# Altium schematic symbol library Regulator_Switching.SchLib: 1279 symbols (part 2 of 14)
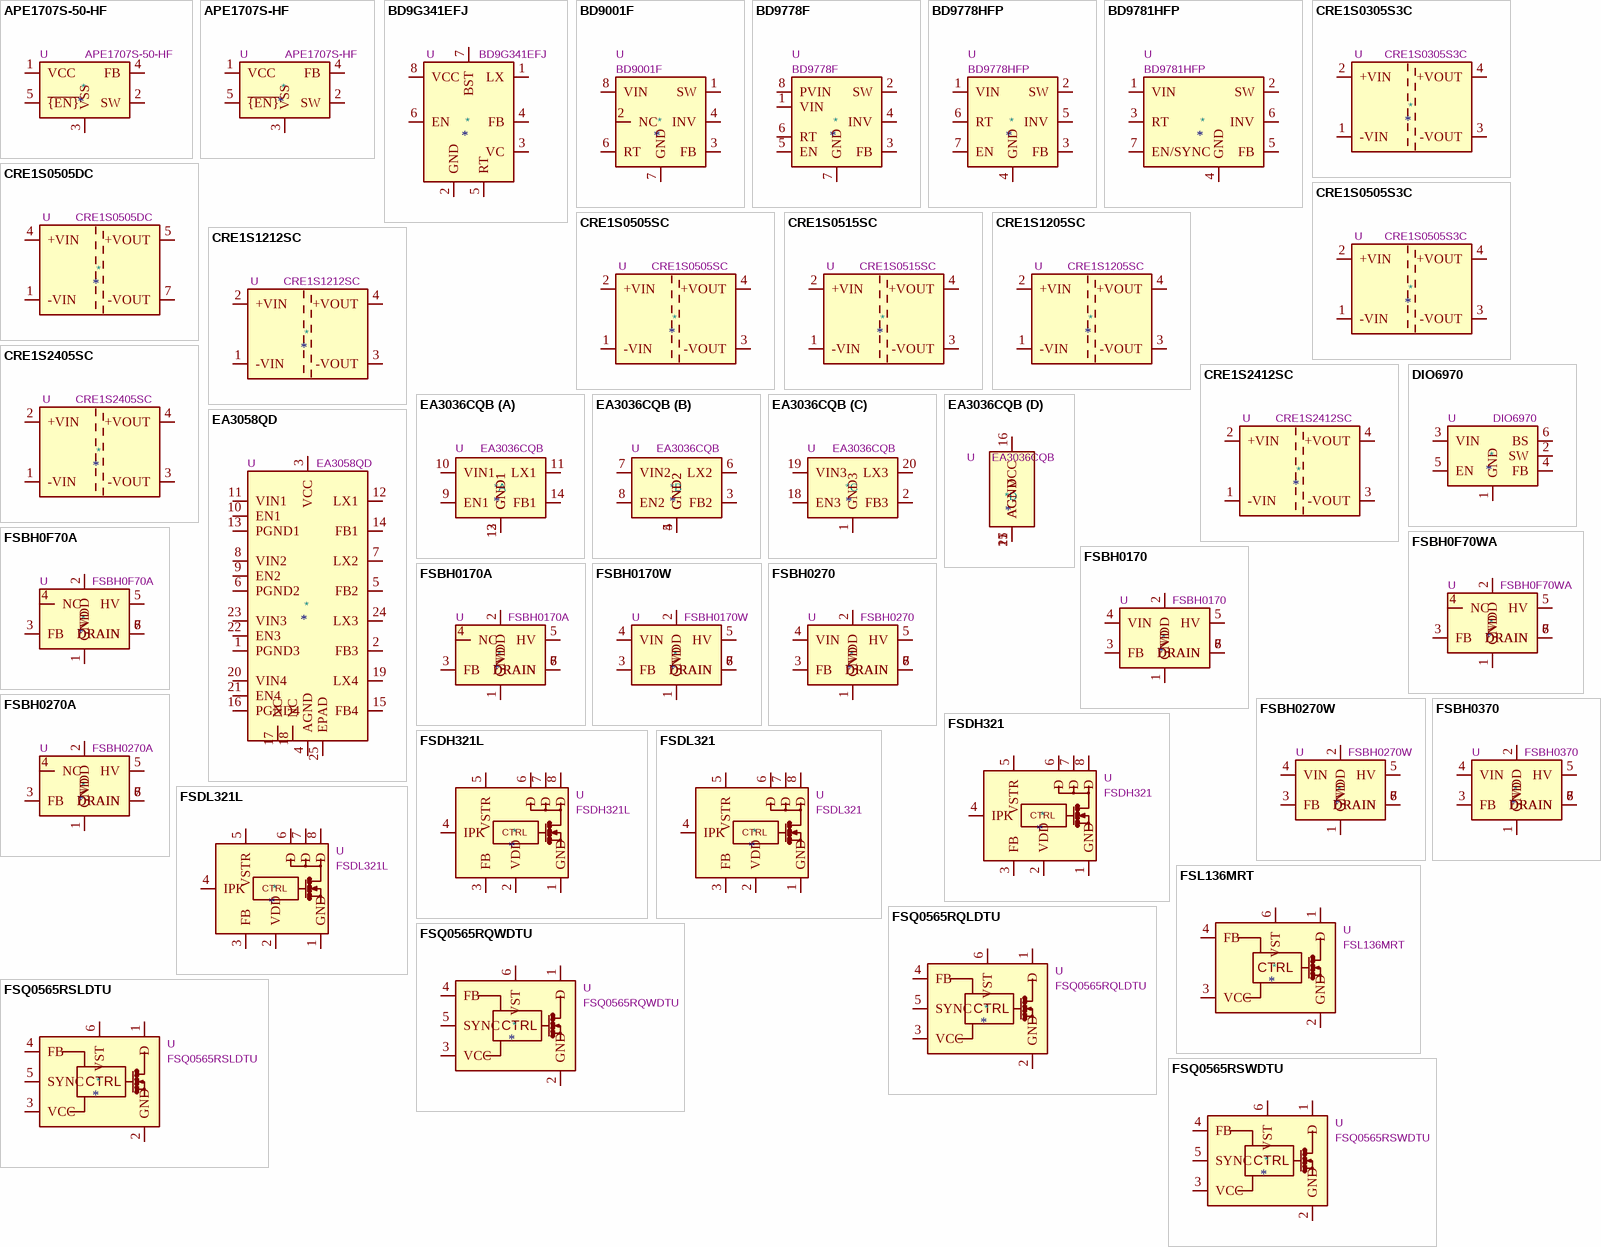
[diagram p33: symbols APE1707S-50-HF to FSQ0565RSWDTU]

## DIO6970
designator *  value DIO6970  Reference: U
High-Efficiency 2A, 24V Input Synchronous Step Down Converter, SOT-23-6; ki_keywords: smps buck boost inverting; ki_fp_filters: SOT?23*; Footprint: Package_TO_SOT_SMD:SOT-23-6; Datasheet: http://www.dioo.com/uploads/product/20190313/7a4d03690a9be004035eb1035a429f24.pdf; Description_: High-Efficiency 2A, 24V Input Synchronous Step Down Converter, SOT-23-6
pins: 1 GND, 2 SW, 3 VIN, 4 FB, 5 EN, 6 BS

## EA3036CQB
designator *  value EA3036CQB  Reference: U
3CH power management IC, input range: 2.7V - 5.5V, output range: 0.6V - VIN, 1.5 MHz, WQFN-20; ki_keywords: buck DCDC converter; ki_fp_filters: *QFN*3x3mm*P0.4mm*EP1.65x1.65mm* *QFN*3x3mm*P0.4mm*EP1.7x1.7mm*; Footprint: Package_DFN_QFN:QFN-20-1EP_3x3mm_P0.4mm_EP1.65x1.65mm; Datasheet: https://atta.szlcsc.com/upload/public/pdf/source/20200529/C570857_65255DA4FBC4C795D9FF4AFE8A3669F7.pdf; Description_: 3CH power management IC, input range: 2.7V - 5.5V, output range: 0.6V - VIN, 1.5 MHz, WQFN-20
part A pins: 9 EN1, 10 VIN1, 11 LX1, 12 GND1, 13 GND1, 14 FB1
part B pins: 3 FB2, 4 GND2, 5 GND2, 6 LX2, 7 VIN2, 8 EN2
part C pins: 1 GND3, 2 FB3, 18 EN3, 19 VIN3, 20 LX3
part D pins: 15 AGND, 16 VCC, 17 AGND, 21 AGND

## EA3058QD
designator *  value EA3058QD  Reference: U
4-channel power management IC, 2.7..5.5V input, 1.5 MHz switching frequency, VQFN-24; ki_keywords: buck-converter SMPS; ki_fp_filters: *QFN*4x4mm*P0.5mm*EP2.5*x2.5*; Footprint: Package_DFN_QFN:VQFN-24-1EP_4x4mm_P0.5mm_EP2.5x2.5mm_ThermalVias; Datasheet: https://www.lcsc.com/datasheet/lcsc_datasheet_2006041834_Everanalog-IC-design-EA3058QDR_C575412.pdf; Description_: 4-channel power management IC, 2.7..5.5V input, 1.5 MHz switching frequency, VQFN-24
pins: 1 PGND3, 2 FB3, 3 VCC, 4 AGND, 5 FB2, 6 PGND2, 7 LX2, 8 VIN2, 9 EN2, 10 EN1, 11 VIN1, 12 LX1, 13 PGND1, 14 FB1, 15 FB4, 16 PGND4, 17 NC, 18 NC, 19 LX4, 20 VIN4, 21 EN4, 22 EN3, 23 VIN3, 24 LX3, 25 EPAD

## FSBH0F70A
designator *  value FSBH0F70A  Reference: U
Green Mode Fairchild Power Switch, 700V Vds, 0.5A Id, 10W/8W 230V/85-265V, DIP-8; ki_keywords: smps regulator; ki_fp_filters: DIP*W7.62mm*; Footprint: Package_DIP:DIP-8_W7.62mm; Datasheet: https://www.onsemi.com/pub/Collateral/FSBH0270-D.PDF; Description_: Green Mode Fairchild Power Switch, 700V Vds, 0.5A Id, 10W/8W 230V/85-265V, DIP-8
pins: 1 GND, 2 VDD, 3 FB, 4 NC, 5 HV, 6 DRAIN, 7 DRAIN, 8 DRAIN

## FSBH0F70WA
designator *  value FSBH0F70WA  Reference: U
Green Mode Fairchild Power Switch, 700V Vds, 0.5A Id, 10W/8W 230V/85-265V, DIP-8; ki_keywords: smps regulator; ki_fp_filters: DIP*W7.62mm*; Footprint: Package_DIP:DIP-8_W7.62mm; Datasheet: http://www.onsemi.com/pub/Collateral/FSBH0270W-D.pdf; Description_: Green Mode Fairchild Power Switch, 700V Vds, 0.5A Id, 10W/8W 230V/85-265V, DIP-8
pins: 1 GND, 2 VDD, 3 FB, 4 NC, 5 HV, 6 DRAIN, 7 DRAIN, 8 DRAIN

## FSBH0170
designator *  value FSBH0170  Reference: U
Green Mode Fairchild Power Switch, 700V Vds, 1.0A Id, 15W/13W 230V/85-265V, VIN Pin, DIP-8; ki_keywords: smps regulator; ki_fp_filters: DIP*W7.62mm*; Footprint: Package_DIP:DIP-8_W7.62mm; Datasheet: https://www.onsemi.com/pub/Collateral/FSBH0270-D.PDF; Description_: Green Mode Fairchild Power Switch, 700V Vds, 1.0A Id, 15W/13W 230V/85-265V, VIN Pin, DIP-8
pins: 1 GND, 2 VDD, 3 FB, 4 VIN, 5 HV, 6 DRAIN, 7 DRAIN, 8 DRAIN

## FSBH0170A
designator *  value FSBH0170A  Reference: U
Green Mode Fairchild Power Switch, 700V Vds, 1.0A Id, 15W/13W 230V/85-265V, DIP-8; ki_keywords: smps regulator; ki_fp_filters: DIP*W7.62mm*; Footprint: Package_DIP:DIP-8_W7.62mm; Datasheet: https://www.onsemi.com/pub/Collateral/FSBH0270-D.PDF; Description_: Green Mode Fairchild Power Switch, 700V Vds, 1.0A Id, 15W/13W 230V/85-265V, DIP-8
pins: 1 GND, 2 VDD, 3 FB, 4 NC, 5 HV, 6 DRAIN, 7 DRAIN, 8 DRAIN

## FSBH0170W
designator *  value FSBH0170W  Reference: U
Green Mode Fairchild Power Switch, 700V Vds, 1.0A Id, 15W/13W 230V/85-265V, VIN Pin, DIP-8; ki_keywords: smps regulator; ki_fp_filters: DIP*W7.62mm*; Footprint: Package_DIP:DIP-8_W7.62mm; Datasheet: http://www.onsemi.com/pub/Collateral/FSBH0270W-D.pdf; Description_: Green Mode Fairchild Power Switch, 700V Vds, 1.0A Id, 15W/13W 230V/85-265V, VIN Pin, DIP-8
pins: 1 GND, 2 VDD, 3 FB, 4 VIN, 5 HV, 6 DRAIN, 7 DRAIN, 8 DRAIN

## FSBH0270
designator *  value FSBH0270  Reference: U
Green Mode Fairchild Power Switch, 700V Vds, 2.0A Id, 20W/16W 230V/85-265V, VIN Pin, DIP-8; ki_keywords: smps regulator; ki_fp_filters: DIP*W7.62mm*; Footprint: Package_DIP:DIP-8_W7.62mm; Datasheet: https://www.onsemi.com/pub/Collateral/FSBH0270-D.PDF; Description_: Green Mode Fairchild Power Switch, 700V Vds, 2.0A Id, 20W/16W 230V/85-265V, VIN Pin, DIP-8
pins: 1 GND, 2 VDD, 3 FB, 4 VIN, 5 HV, 6 DRAIN, 7 DRAIN, 8 DRAIN

## FSBH0270A
designator *  value FSBH0270A  Reference: U
Green Mode Fairchild Power Switch, 700V Vds, 2.0A Id, 20W/16W 230V/85-265V, DIP-8; ki_keywords: smps regulator; ki_fp_filters: DIP*W7.62mm*; Footprint: Package_DIP:DIP-8_W7.62mm; Datasheet: https://www.onsemi.com/pub/Collateral/FSBH0270-D.PDF; Description_: Green Mode Fairchild Power Switch, 700V Vds, 2.0A Id, 20W/16W 230V/85-265V, DIP-8
pins: 1 GND, 2 VDD, 3 FB, 4 NC, 5 HV, 6 DRAIN, 7 DRAIN, 8 DRAIN

## FSBH0270W
designator *  value FSBH0270W  Reference: U
Green Mode Fairchild Power Switch, 700V Vds, 2.0A Id, 20W/16W 230V/85-265V, VIN Pin, DIP-8; ki_keywords: smps regulator; ki_fp_filters: DIP*W7.62mm*; Footprint: Package_DIP:DIP-8_W7.62mm; Datasheet: http://www.onsemi.com/pub/Collateral/FSBH0270W-D.pdf; Description_: Green Mode Fairchild Power Switch, 700V Vds, 2.0A Id, 20W/16W 230V/85-265V, VIN Pin, DIP-8
pins: 1 GND, 2 VDD, 3 FB, 4 VIN, 5 HV, 6 DRAIN, 7 DRAIN, 8 DRAIN

## FSBH0370
designator *  value FSBH0370  Reference: U
Green Mode Fairchild Power Switch, 700V Vds, 3.0A Id, 25W/19W 230V/85-265V, VIN Pin, DIP-8; ki_keywords: smps regulator; ki_fp_filters: DIP*W7.62mm*; Footprint: Package_DIP:DIP-8_W7.62mm; Datasheet: https://www.onsemi.com/pub/Collateral/FSBH0270-D.PDF; Description_: Green Mode Fairchild Power Switch, 700V Vds, 3.0A Id, 25W/19W 230V/85-265V, VIN Pin, DIP-8
pins: 1 GND, 2 VDD, 3 FB, 4 VIN, 5 HV, 6 DRAIN, 7 DRAIN, 8 DRAIN

## FSDH321
designator *  value FSDH321  Reference: U
17W SMPS Controller, 100kHz, AC-DC, PDIP-8; ki_keywords: SMPS Controller with MOSFET 17W AC-DC; ki_fp_filters: DIP*W7.62mm*; Footprint: Package_DIP:DIP-8_W7.62mm; Datasheet: https://www.onsemi.com/pub/Collateral/FSDH321JP-D.pdf; Description_: 17W SMPS Controller, 100kHz, AC-DC, PDIP-8
pins: 1 GND, 2 VDD, 3 FB, 4 IPK, 5 VSTR, 6 D, 7 D, 8 D
text: CTRL

## FSDH321L
designator *  value FSDH321L  Reference: U
17W SMPS Controller, 100kHz, AC-DC, SMD-8; ki_keywords: SMPS Controller with MOSFET 17W AC-DC; ki_fp_filters: Fairchild*LSOP*; Footprint: Package_DIP:Fairchild_LSOP-8; Datasheet: https://www.onsemi.com/pub/Collateral/FSDH321JP-D.pdf; Description_: 17W SMPS Controller, 100kHz, AC-DC, SMD-8
pins: 1 GND, 2 VDD, 3 FB, 4 IPK, 5 VSTR, 6 D, 7 D, 8 D
text: CTRL

## FSDL321
designator *  value FSDL321  Reference: U
17W SMPS Controller, 50kHz, AC-DC, PDIP-8; ki_keywords: SMPS Controller with MOSFET 17W AC-DC; ki_fp_filters: DIP*W7.62mm*; Footprint: Package_DIP:DIP-8_W7.62mm; Datasheet: https://www.onsemi.com/pub/Collateral/FSDH321JP-D.pdf; Description_: 17W SMPS Controller, 50kHz, AC-DC, PDIP-8
pins: 1 GND, 2 VDD, 3 FB, 4 IPK, 5 VSTR, 6 D, 7 D, 8 D
text: CTRL

## FSDL321L
designator *  value FSDL321L  Reference: U
17W SMPS Controller, 50kHz, AC-DC, SMD-8; ki_keywords: SMPS Controller with MOSFET 17W AC-DC; ki_fp_filters: Fairchild*LSOP*; Footprint: Package_DIP:Fairchild_LSOP-8; Datasheet: https://www.onsemi.com/pub/Collateral/FSDH321JP-D.pdf; Description_: 17W SMPS Controller, 50kHz, AC-DC, SMD-8
pins: 1 GND, 2 VDD, 3 FB, 4 IPK, 5 VSTR, 6 D, 7 D, 8 D
text: CTRL

## FSL136MRT
designator *  value FSL136MRT  Reference: U
67kHz SMPS Controller w/ Soft Start, max. 50W AC-DC, TO-220F-6L; ki_keywords: SMPS Controller 50W AC-DC; ki_fp_filters: Fairchild*TO*220F*6L*; Footprint: Package_TO_SOT_THT:Fairchild_TO-220F-6L; Datasheet: https://www.onsemi.com/pub/Collateral/FSL136MRT-D.pdf; Description_: 67kHz SMPS Controller w/ Soft Start, max. 50W AC-DC, TO-220F-6L
pins: 1 D, 2 GND, 3 VCC, 4 FB, 6 VST
text: CTRL

## FSQ0565RQLDTU
designator *  value FSQ0565RQLDTU  Reference: U
67kHz Quasi Resonant SMPS Controller w/ Soft Start, max. 80W AC-DC, TO-220F-6L (Formed); ki_keywords: Quasi Resonant SMPS Controller 80W AC-DC; ki_fp_filters: Fairchild*TO*220F*6L*; Footprint: Package_TO_SOT_THT:Fairchild_TO-220F-6L; Datasheet: http://www.onsemi.com/pub/Collateral/FSQ0565RS-D.PDF; Description_: 67kHz Quasi Resonant SMPS Controller w/ Soft Start, max. 80W AC-DC, TO-220F-6L (Formed)
pins: 1 D, 2 GND, 3 VCC, 4 FB, 5 SYNC, 6 VST
text: CTRL

## FSQ0565RQWDTU
designator *  value FSQ0565RQWDTU  Reference: U
67kHz Quasi Resonant SMPS Controller w/ Soft Start, max. 80W AC-DC, TO-220F-6L; ki_keywords: Quasi Resonant SMPS Controller 80W AC-DC; ki_fp_filters: Fairchild*TO*220F*6L*; Footprint: Package_TO_SOT_THT:Fairchild_TO-220F-6L; Datasheet: http://www.onsemi.com/pub/Collateral/FSQ0565RS-D.PDF; Description_: 67kHz Quasi Resonant SMPS Controller w/ Soft Start, max. 80W AC-DC, TO-220F-6L
pins: 1 D, 2 GND, 3 VCC, 4 FB, 5 SYNC, 6 VST
text: CTRL

## FSQ0565RSLDTU
designator *  value FSQ0565RSLDTU  Reference: U
67kHz Quasi Resonant SMPS Controller w/ Soft Start, max. 80W AC-DC, TO-220F-6L (Formed); ki_keywords: Quasi Resonant SMPS Controller 80W AC-DC; ki_fp_filters: Fairchild*TO*220F*6L*; Footprint: Package_TO_SOT_THT:Fairchild_TO-220F-6L; Datasheet: http://www.onsemi.com/pub/Collateral/FSQ0565RS-D.PDF; Description_: 67kHz Quasi Resonant SMPS Controller w/ Soft Start, max. 80W AC-DC, TO-220F-6L (Formed)
pins: 1 D, 2 GND, 3 VCC, 4 FB, 5 SYNC, 6 VST
text: CTRL

## FSQ0565RSWDTU
designator *  value FSQ0565RSWDTU  Reference: U
67kHz Quasi Resonant SMPS Controller w/ Soft Start, max. 80W AC-DC, TO-220F-6L; ki_keywords: Quasi Resonant SMPS Controller 80W AC-DC; ki_fp_filters: Fairchild*TO*220F*6L*; Footprint: Package_TO_SOT_THT:Fairchild_TO-220F-6L; Datasheet: http://www.onsemi.com/pub/Collateral/FSQ0565RS-D.PDF; Description_: 67kHz Quasi Resonant SMPS Controller w/ Soft Start, max. 80W AC-DC, TO-220F-6L
pins: 1 D, 2 GND, 3 VCC, 4 FB, 5 SYNC, 6 VST
text: CTRL

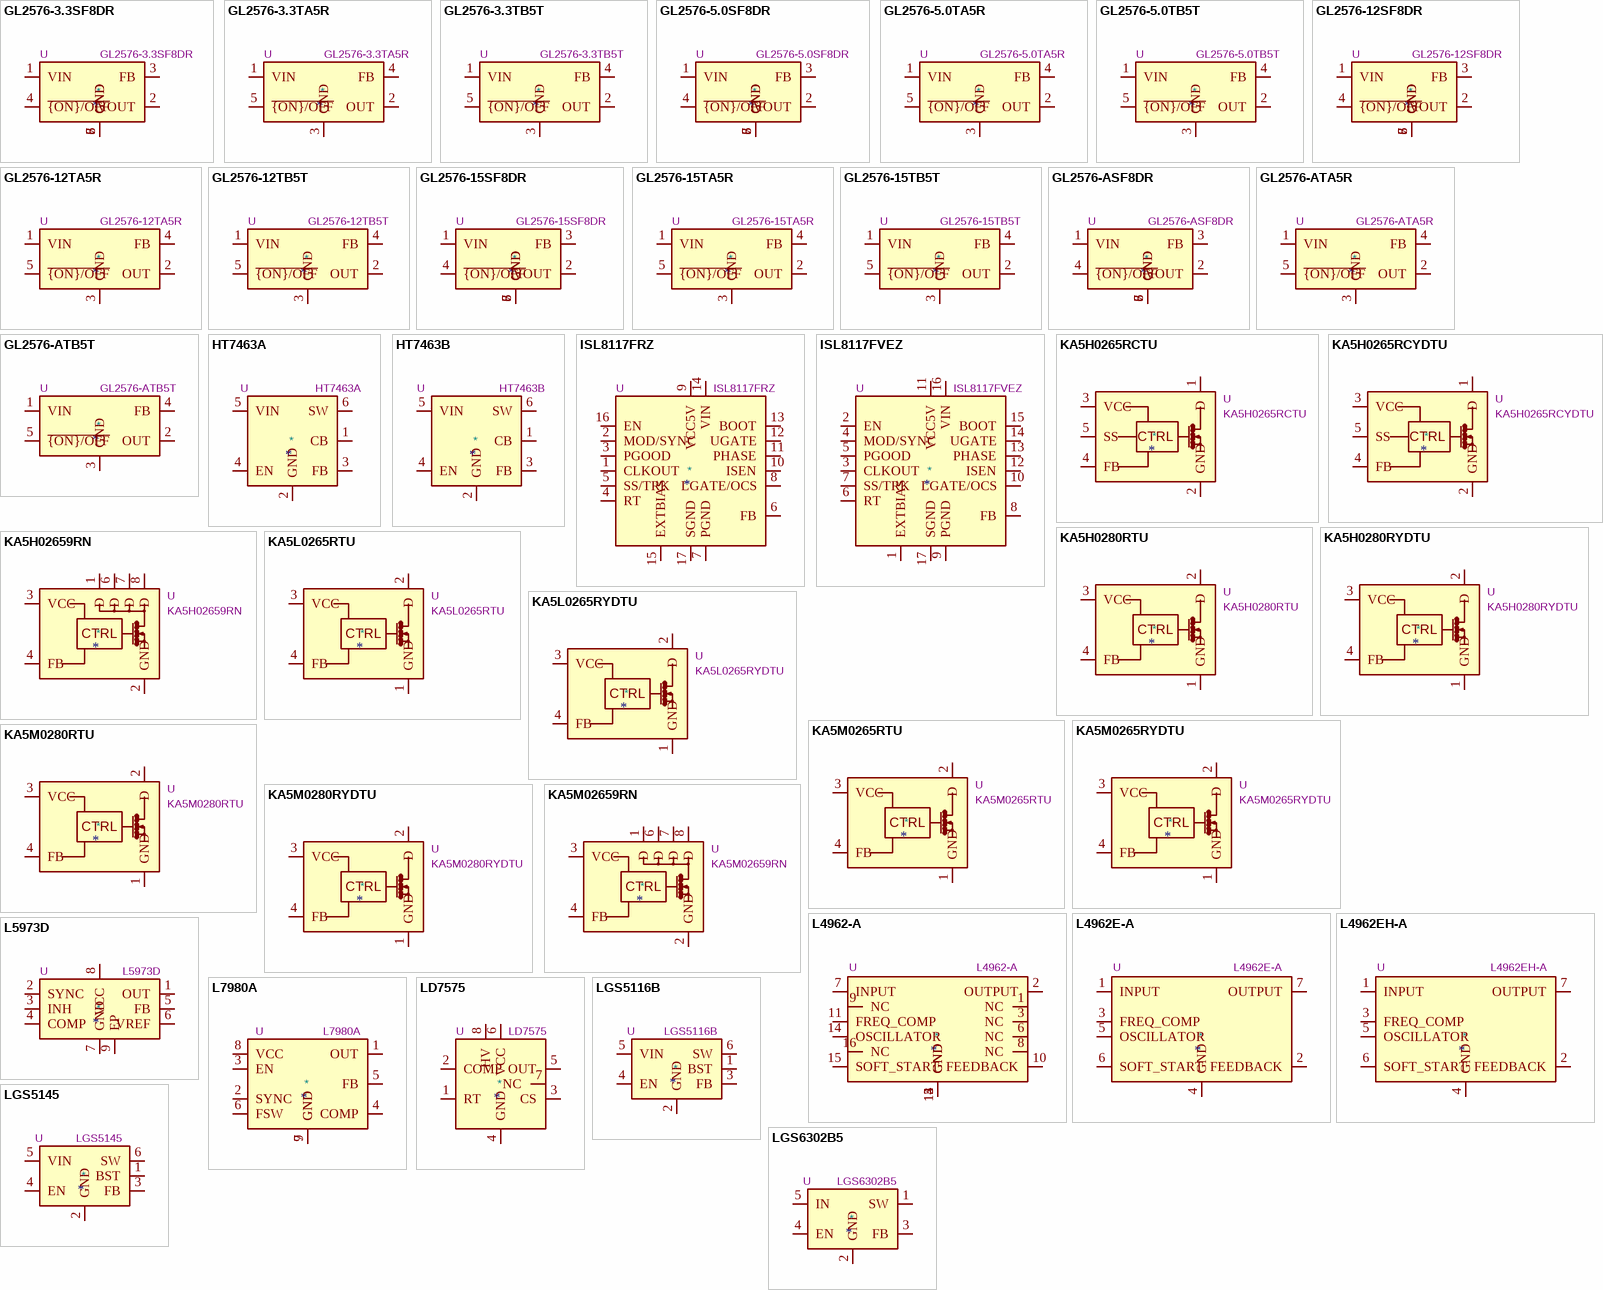
[diagram p3: symbols GL2576-3.3SF8DR to LGS6302B5]

## GL2576-3.3SF8DR
designator *  value GL2576-3.3SF8DR  Reference: U
3.3V 3A, 52KHz Step Down Converter, SO-8; ki_keywords: 3.3V 3A 52KHz Buck DC/DC; ki_fp_filters: SOIC*3.9x4.9mm*P1.27mm*; Footprint: Package_SO:SOIC-8_3.9x4.9mm_P1.27mm; Datasheet: http://www.dianyuan.com/bbs/u/54/437861181916300.pdf; Description_: 3.3V 3A, 52KHz Step Down Converter, SO-8
pins: 1 VIN, 2 VOUT, 3 FB, 4 ~{{ON}/OFF}, 5 GND, 6 GND, 7 GND, 8 GND

## GL2576-3.3TA5R
designator *  value GL2576-3.3TA5R  Reference: U
3.3V 3A, 52KHz Step Down Converter, TO263-5 (D2-PAK); ki_keywords: 3.3V 3A 52KHz Buck DC/DC; ki_fp_filters: TO?263*; Footprint: Package_TO_SOT_SMD:TO-263-5_TabPin3; Datasheet: http://www.dianyuan.com/bbs/u/54/437861181916300.pdf; Description_: 3.3V 3A, 52KHz Step Down Converter, TO263-5 (D2-PAK)
pins: 1 VIN, 2 OUT, 3 GND, 4 FB, 5 ~{{ON}/OFF}

## GL2576-3.3TB5T
designator *  value GL2576-3.3TB5T  Reference: U
3.3V 3A, 52KHz Step Down Converter, TO220-5; ki_keywords: 3.3V 3A 52KHz Buck DC/DC; ki_fp_filters: TO?220*; Footprint: Package_TO_SOT_THT:TO-220-5_Vertical; Datasheet: http://www.dianyuan.com/bbs/u/54/437861181916300.pdf; Description_: 3.3V 3A, 52KHz Step Down Converter, TO220-5
pins: 1 VIN, 2 OUT, 3 GND, 4 FB, 5 ~{{ON}/OFF}

## GL2576-5.0SF8DR
designator *  value GL2576-5.0SF8DR  Reference: U
5V 3A, 52KHz Step Down Converter, SO-8; ki_keywords: 5V 3A 52KHz Buck DC/DC; ki_fp_filters: SOIC*3.9x4.9mm*P1.27mm*; Footprint: Package_SO:SOIC-8_3.9x4.9mm_P1.27mm; Datasheet: http://www.dianyuan.com/bbs/u/54/437861181916300.pdf; Description_: 5V 3A, 52KHz Step Down Converter, SO-8
pins: 1 VIN, 2 VOUT, 3 FB, 4 ~{{ON}/OFF}, 5 GND, 6 GND, 7 GND, 8 GND

## GL2576-5.0TA5R
designator *  value GL2576-5.0TA5R  Reference: U
5V 3A, 52KHz Step Down Converter, TO263-5 (D2-PAK); ki_keywords: 5V 3A 52KHz Buck DC/DC; ki_fp_filters: TO?263*; Footprint: Package_TO_SOT_SMD:TO-263-5_TabPin3; Datasheet: http://www.dianyuan.com/bbs/u/54/437861181916300.pdf; Description_: 5V 3A, 52KHz Step Down Converter, TO263-5 (D2-PAK)
pins: 1 VIN, 2 OUT, 3 GND, 4 FB, 5 ~{{ON}/OFF}

## GL2576-5.0TB5T
designator *  value GL2576-5.0TB5T  Reference: U
5V 3A, 52KHz Step Down Converter, TO220-5; ki_keywords: 5V 3A 52KHz Buck DC/DC; ki_fp_filters: TO?220*; Footprint: Package_TO_SOT_THT:TO-220-5_Vertical; Datasheet: http://www.dianyuan.com/bbs/u/54/437861181916300.pdf; Description_: 5V 3A, 52KHz Step Down Converter, TO220-5
pins: 1 VIN, 2 OUT, 3 GND, 4 FB, 5 ~{{ON}/OFF}

## GL2576-12SF8DR
designator *  value GL2576-12SF8DR  Reference: U
12V 3A, 52KHz Step Down Converter, SO-8; ki_keywords: 12V 3A 52KHz Buck DC/DC; ki_fp_filters: SOIC*3.9x4.9mm*P1.27mm*; Footprint: Package_SO:SOIC-8_3.9x4.9mm_P1.27mm; Datasheet: http://www.dianyuan.com/bbs/u/54/437861181916300.pdf; Description_: 12V 3A, 52KHz Step Down Converter, SO-8
pins: 1 VIN, 2 VOUT, 3 FB, 4 ~{{ON}/OFF}, 5 GND, 6 GND, 7 GND, 8 GND

## GL2576-12TA5R
designator *  value GL2576-12TA5R  Reference: U
12V 3A, 52KHz Step Down Converter, TO263-5 (D2-PAK); ki_keywords: 12V 3A 52KHz Buck DC/DC; ki_fp_filters: TO?263*; Footprint: Package_TO_SOT_SMD:TO-263-5_TabPin3; Datasheet: http://www.dianyuan.com/bbs/u/54/437861181916300.pdf; Description_: 12V 3A, 52KHz Step Down Converter, TO263-5 (D2-PAK)
pins: 1 VIN, 2 OUT, 3 GND, 4 FB, 5 ~{{ON}/OFF}

## GL2576-12TB5T
designator *  value GL2576-12TB5T  Reference: U
12V 3A, 52KHz Step Down Converter, TO220-5; ki_keywords: 12V 3A 52KHz Buck DC/DC; ki_fp_filters: TO?220*; Footprint: Package_TO_SOT_THT:TO-220-5_Vertical; Datasheet: http://www.dianyuan.com/bbs/u/54/437861181916300.pdf; Description_: 12V 3A, 52KHz Step Down Converter, TO220-5
pins: 1 VIN, 2 OUT, 3 GND, 4 FB, 5 ~{{ON}/OFF}

## GL2576-15SF8DR
designator *  value GL2576-15SF8DR  Reference: U
15V 3A, 52KHz Step Down Converter, SO-8; ki_keywords: 15V 3A 52KHz Buck DC/DC; ki_fp_filters: SOIC*3.9x4.9mm*P1.27mm*; Footprint: Package_SO:SOIC-8_3.9x4.9mm_P1.27mm; Datasheet: http://www.dianyuan.com/bbs/u/54/437861181916300.pdf; Description_: 15V 3A, 52KHz Step Down Converter, SO-8
pins: 1 VIN, 2 VOUT, 3 FB, 4 ~{{ON}/OFF}, 5 GND, 6 GND, 7 GND, 8 GND

## GL2576-15TA5R
designator *  value GL2576-15TA5R  Reference: U
15V 3A, 52KHz Step Down Converter, TO263-5 (D2-PAK); ki_keywords: 15V 3A 52KHz Buck DC/DC; ki_fp_filters: TO?263*; Footprint: Package_TO_SOT_SMD:TO-263-5_TabPin3; Datasheet: http://www.dianyuan.com/bbs/u/54/437861181916300.pdf; Description_: 15V 3A, 52KHz Step Down Converter, TO263-5 (D2-PAK)
pins: 1 VIN, 2 OUT, 3 GND, 4 FB, 5 ~{{ON}/OFF}

## GL2576-15TB5T
designator *  value GL2576-15TB5T  Reference: U
15V 3A, 52KHz Step Down Converter, TO220-5; ki_keywords: 15V 3A 52KHz Buck DC/DC; ki_fp_filters: TO?220*; Footprint: Package_TO_SOT_THT:TO-220-5_Vertical; Datasheet: http://www.dianyuan.com/bbs/u/54/437861181916300.pdf; Description_: 15V 3A, 52KHz Step Down Converter, TO220-5
pins: 1 VIN, 2 OUT, 3 GND, 4 FB, 5 ~{{ON}/OFF}

## GL2576-ASF8DR
designator *  value GL2576-ASF8DR  Reference: U
Adjustable 3A, 52KHz Step Down Converter, SO-8; ki_keywords: Adjustable 3A 52KHz Buck DC/DC; ki_fp_filters: SOIC*3.9x4.9mm*P1.27mm*; Footprint: Package_SO:SOIC-8_3.9x4.9mm_P1.27mm; Datasheet: http://www.dianyuan.com/bbs/u/54/437861181916300.pdf; Description_: Adjustable 3A, 52KHz Step Down Converter, SO-8
pins: 1 VIN, 2 VOUT, 3 FB, 4 ~{{ON}/OFF}, 5 GND, 6 GND, 7 GND, 8 GND

## GL2576-ATA5R
designator *  value GL2576-ATA5R  Reference: U
Adjustable 3A, 52KHz Step Down Converter, TO263-5 (D2-PAK); ki_keywords: Adjustable 3A 52KHz Buck DC/DC; ki_fp_filters: TO?263*; Footprint: Package_TO_SOT_SMD:TO-263-5_TabPin3; Datasheet: http://www.dianyuan.com/bbs/u/54/437861181916300.pdf; Description_: Adjustable 3A, 52KHz Step Down Converter, TO263-5 (D2-PAK)
pins: 1 VIN, 2 OUT, 3 GND, 4 FB, 5 ~{{ON}/OFF}

## GL2576-ATB5T
designator *  value GL2576-ATB5T  Reference: U
Adjustable 3A, 52KHz Step Down Converter, TO220-5; ki_keywords: Adjustable 3A 52KHz Buck DC/DC; ki_fp_filters: TO?220*; Footprint: Package_TO_SOT_THT:TO-220-5_Vertical; Datasheet: http://www.dianyuan.com/bbs/u/54/437861181916300.pdf; Description_: Adjustable 3A, 52KHz Step Down Converter, TO220-5
pins: 1 VIN, 2 OUT, 3 GND, 4 FB, 5 ~{{ON}/OFF}

## HT7463A
designator *  value HT7463A  Reference: U
600mA High-Efficiency Step-Down DC-DC Converter, 4.5-52V input voltage, adjustable output voltage, SOT-23-6; ki_keywords: buck regulator; ki_fp_filters: SOT*23*6*; Footprint: Package_TO_SOT_SMD:SOT-23-6; Datasheet: https://www.holtek.com/documents/10179/116711/HT7463A_Bv160.pdf; Description_: 600mA High-Efficiency Step-Down DC-DC Converter, 4.5-52V input voltage, adjustable output voltage, SOT-23-6
pins: 1 CB, 2 GND, 3 FB, 4 EN, 5 VIN, 6 SW

## HT7463B
designator *  value HT7463B  Reference: U
52V/600mA, 550kHz Asynchronous Step Down Converter; ki_keywords: 600mA Buck DC/DC 52V 550kHz; ki_fp_filters: SOT*23*6*; Footprint: Package_TO_SOT_SMD:SOT-23-6; Datasheet: https://www.holtek.com/documents/10179/116711/HT7463A_Bv160.pdf; Description_: 52V/600mA, 550kHz Asynchronous Step Down Converter
pins: 1 CB, 2 GND, 3 FB, 4 EN, 5 VIN, 6 SW

## ISL8117FRZ
designator *  value ISL8117FRZ  Reference: U
Synchronous step-down PWM controller, 4.5v to 60v input, 0.6v to 54v Output Voltage, QFN-16; ki_keywords: PWM step down buck converter controller synchronous POL; ki_fp_filters: QFN*1EP*4x4mm*P0.5mm*; Footprint: Package_DFN_QFN:QFN-16-1EP_4x4mm_P0.5mm_EP2.45x2.45mm; Datasheet: https://www.intersil.com/content/dam/Intersil/documents/isl8/isl8117.pdf; Description_: Synchronous step-down PWM controller, 4.5v to 60v input, 0.6v to 54v Output Voltage, QFN-16
pins: 1 CLKOUT, 2 MOD/SYNC, 3 PGOOD, 4 RT, 5 SS/TRK, 6 FB, 7 PGND, 8 LGATE/OCS, 9 VCC5V, 10 ISEN, 11 PHASE, 12 UGATE, 13 BOOT, 14 VIN, 15 EXTBIAS, 16 EN, 17 SGND

## ISL8117FVEZ
designator *  value ISL8117FVEZ  Reference: U
Synchronous step-down PWM controller, 4.5v to 60v input, 0.6v to 54v Output Voltage, HTSSOP-16; ki_keywords: PWM step down buck converter controller synchronous POL; ki_fp_filters: HTSSOP*EP*4.4x5mm*P0.65mm*; Footprint: Package_SO:HTSSOP-16-1EP_4.4x5mm_P0.65mm_EP3.4x5mm; Datasheet: https://www.intersil.com/content/dam/Intersil/documents/isl8/isl8117.pdf; Description_: Synchronous step-down PWM controller, 4.5v to 60v input, 0.6v to 54v Output Voltage, HTSSOP-16
pins: 1 EXTBIAS, 2 EN, 3 CLKOUT, 4 MOD/SYNC, 5 PGOOD, 6 RT, 7 SS/TRK, 8 FB, 9 PGND, 10 LGATE/OCS, 11 VCC5V, 12 ISEN, 13 PHASE, 14 UGATE, 15 BOOT, 16 VIN, 17 SGND

## KA5H0265RCTU
designator *  value KA5H0265RCTU  Reference: U
100kHz SMPS Controller w/ Soft Start, AC-DC, TO-220F-5L; ki_keywords: SMPS Controller AC-DC; ki_fp_filters: *TO*220*5L*; Footprint: Package_TO_SOT_THT:ONSemi_TO-220-5L; Datasheet: http://www.onsemi.com/pub/Collateral/KA5L0265R-D.PDF; Description_: 100kHz SMPS Controller w/ Soft Start, AC-DC, TO-220F-5L
pins: 1 D, 2 GND, 3 VCC, 4 FB, 5 SS
text: CTRL

## KA5H0265RCYDTU
designator *  value KA5H0265RCYDTU  Reference: U
KA5H0265RCTU, 100kHz SMPS Controller w/ Soft Start, AC-DC, TO-220F-5L(Forming); ki_keywords: SMPS Controller AC-DC; ki_fp_filters: *TO*220*5L*; Footprint: Package_TO_SOT_THT:ONSemi_TO-220-5L_Forming; Datasheet: http://www.onsemi.com/pub/Collateral/KA5L0265R-D.PDF; Description_: KA5H0265RCTU, 100kHz SMPS Controller w/ Soft Start, AC-DC, TO-220F-5L(Forming)
pins: 1 D, 2 GND, 3 VCC, 4 FB, 5 SS
text: CTRL

## KA5H0280RTU
designator *  value KA5H0280RTU  Reference: U
100kHz SMPS Controller, AC-DC, TO-220F-4L; ki_keywords: SMPS Controller AC-DC; ki_fp_filters: *TO*220*4*; Footprint: Package_TO_SOT_THT:TO-220-4_Vertical; Datasheet: http://www.onsemi.com/pub/Collateral/KA5L0265R-D.PDF; Description_: 100kHz SMPS Controller, AC-DC, TO-220F-4L
pins: 1 GND, 2 D, 3 VCC, 4 FB
text: CTRL

## KA5H0280RYDTU
designator *  value KA5H0280RYDTU  Reference: U
100kHz SMPS Controller, AC-DC, TO-220F-4L(Forming); ki_keywords: SMPS Controller AC-DC; ki_fp_filters: *TO*220*4*; Footprint: Package_TO_SOT_THT:ONSemi_TO-220F-4L_Forming; Datasheet: http://www.onsemi.com/pub/Collateral/KA5L0265R-D.PDF; Description_: 100kHz SMPS Controller, AC-DC, TO-220F-4L(Forming)
pins: 1 GND, 2 D, 3 VCC, 4 FB
text: CTRL

## KA5H02659RN
designator *  value KA5H02659RN  Reference: U
100kHz SMPS Controller, AC-DC, PDIP-8; ki_keywords: SMPS Controller AC-DC; ki_fp_filters: DIP*8*W7.62mm*; Footprint: Package_DIP:DIP-8_W7.62mm; Datasheet: http://www.onsemi.com/pub/Collateral/KA5L0265R-D.PDF; Description_: 100kHz SMPS Controller, AC-DC, PDIP-8
pins: 1 D, 2 GND, 3 VCC, 4 FB, 6 D, 7 D, 8 D
text: CTRL

## KA5L0265RTU
designator *  value KA5L0265RTU  Reference: U
50kHz SMPS Controller, AC-DC, TO-220F-4L; ki_keywords: SMPS Controller AC-DC; ki_fp_filters: *TO*220*4*; Footprint: Package_TO_SOT_THT:TO-220-4_Vertical; Datasheet: http://www.onsemi.com/pub/Collateral/KA5L0265R-D.PDF; Description_: 50kHz SMPS Controller, AC-DC, TO-220F-4L
pins: 1 GND, 2 D, 3 VCC, 4 FB
text: CTRL

## KA5L0265RYDTU
designator *  value KA5L0265RYDTU  Reference: U
50kHz SMPS Controller, AC-DC, TO-220F-4L(Forming); ki_keywords: SMPS Controller AC-DC; ki_fp_filters: *TO*220*4*; Footprint: Package_TO_SOT_THT:ONSemi_TO-220F-4L_Forming; Datasheet: http://www.onsemi.com/pub/Collateral/KA5L0265R-D.PDF; Description_: 50kHz SMPS Controller, AC-DC, TO-220F-4L(Forming)
pins: 1 GND, 2 D, 3 VCC, 4 FB
text: CTRL

## KA5M0265RTU
designator *  value KA5M0265RTU  Reference: U
67kHz SMPS Controller, AC-DC, TO-220F-4L; ki_keywords: SMPS Controller AC-DC; ki_fp_filters: *TO*220*4*; Footprint: Package_TO_SOT_THT:TO-220-4_Vertical; Datasheet: http://www.onsemi.com/pub/Collateral/KA5L0265R-D.PDF; Description_: 67kHz SMPS Controller, AC-DC, TO-220F-4L
pins: 1 GND, 2 D, 3 VCC, 4 FB
text: CTRL

## KA5M0265RYDTU
designator *  value KA5M0265RYDTU  Reference: U
67kHz SMPS Controller, AC-DC, TO-220F-4L(Forming); ki_keywords: SMPS Controller AC-DC; ki_fp_filters: *TO*220*4*; Footprint: Package_TO_SOT_THT:ONSemi_TO-220F-4L_Forming; Datasheet: http://www.onsemi.com/pub/Collateral/KA5L0265R-D.PDF; Description_: 67kHz SMPS Controller, AC-DC, TO-220F-4L(Forming)
pins: 1 GND, 2 D, 3 VCC, 4 FB
text: CTRL

## KA5M0280RTU
designator *  value KA5M0280RTU  Reference: U
67kHz SMPS Controller, AC-DC, TO-220F-4L; ki_keywords: SMPS Controller AC-DC; ki_fp_filters: *TO*220*4*; Footprint: Package_TO_SOT_THT:TO-220-4_Vertical; Datasheet: http://www.onsemi.com/pub/Collateral/KA5L0265R-D.PDF; Description_: 67kHz SMPS Controller, AC-DC, TO-220F-4L
pins: 1 GND, 2 D, 3 VCC, 4 FB
text: CTRL

## KA5M0280RYDTU
designator *  value KA5M0280RYDTU  Reference: U
KA5M0280RTDTU, 67kHz SMPS Controller, AC-DC, TO-220F-4L(Forming); ki_keywords: SMPS Controller AC-DC; ki_fp_filters: *TO*220*4*; Footprint: Package_TO_SOT_THT:ONSemi_TO-220F-4L_Forming; Datasheet: http://www.onsemi.com/pub/Collateral/KA5L0265R-D.PDF; Description_: KA5M0280RTDTU, 67kHz SMPS Controller, AC-DC, TO-220F-4L(Forming)
pins: 1 GND, 2 D, 3 VCC, 4 FB
text: CTRL

## KA5M02659RN
designator *  value KA5M02659RN  Reference: U
67kHz SMPS Controller, AC-DC, PDIP-8; ki_keywords: SMPS Controller AC-DC; ki_fp_filters: DIP*8*W7.62mm*; Footprint: Package_DIP:DIP-8_W7.62mm; Datasheet: http://www.onsemi.com/pub/Collateral/KA5L0265R-D.PDF; Description_: 67kHz SMPS Controller, AC-DC, PDIP-8
pins: 1 D, 2 GND, 3 VCC, 4 FB, 6 D, 7 D, 8 D
text: CTRL

## L4962-A
designator *  value L4962-A  Reference: U
1.5A Power Switching Regulator, 9..46V input, 5.1..40V output, 150 kHz, DIP-16; ki_keywords: buck step-down dc-dc converter PowerDIP L4962/A Obsolete; ki_fp_filters: DIP*W7.*; Footprint: Package_DIP:DIP-16_W7.62mm; Datasheet: https://www.mouser.com/datasheet/2/389/cd00000076-1795191.pdf; Description_: 1.5A Power Switching Regulator, 9..46V input, 5.1..40V output, 150 kHz, DIP-16
pins: 1 NC, 2 OUTPUT, 3 NC, 4 GND, 5 GND, 6 NC, 7 INPUT, 8 NC, 9 NC, 10 FEEDBACK, 11 FREQ_COMP, 12 GND, 13 GND, 14 OSCILLATOR, 15 SOFT_START, 16 NC

## L4962E-A
designator *  value L4962E-A  Reference: U
1.5A Power Switching Regulator, 9..46V input, 5.1..40V output, 150 kHz, TO-220-7 (Heptawatt V); ki_keywords: buck step-down dc-dc converter L4962E/A Obsolete; ki_fp_filters: TO?220*P2.54x5.08*StaggerOdd*Lead3.08*Vertical*; Footprint: Package_TO_SOT_THT:TO-220-7_P2.54x5.08mm_StaggerOdd_Lead3.08mm_Vertical; Datasheet: https://www.mouser.com/datasheet/2/389/cd00000076-1795191.pdf; Description_: 1.5A Power Switching Regulator, 9..46V input, 5.1..40V output, 150 kHz, TO-220-7 (Heptawatt V)
pins: 1 INPUT, 2 FEEDBACK, 3 FREQ_COMP, 4 GND, 5 OSCILLATOR, 6 SOFT_START, 7 OUTPUT

## L4962EH-A
designator *  value L4962EH-A  Reference: U
1.5A Power Switching Regulator, 9..46V input, 5.1..40V output, 150 kHz, TO-220-7 (Heptawatt H); ki_keywords: buck step-down dc-dc converter L4962EH/A Obsolete; ki_fp_filters: TO?220*P2.54x5.1*StaggerOdd*Lead8.025*TabDown*; Footprint: Package_TO_SOT_THT:TO-220-7_P2.54x5.1mm_StaggerOdd_Lead8.025mm_TabDown; Datasheet: https://www.mouser.com/datasheet/2/389/cd00000076-1795191.pdf; Description_: 1.5A Power Switching Regulator, 9..46V input, 5.1..40V output, 150 kHz, TO-220-7 (Heptawatt H)
pins: 1 INPUT, 2 FEEDBACK, 3 FREQ_COMP, 4 GND, 5 OSCILLATOR, 6 SOFT_START, 7 OUTPUT

## L5973D
designator *  value L5973D  Reference: U
2.5A step down switching regulator, HSOP-8; ki_keywords: step down buck regulator; ki_fp_filters: HSOP*EP*3.9x4.9mm*P1.27mm*; Footprint: Package_SO:HSOP-8-1EP_3.9x4.9mm_P1.27mm_EP2.41x3.1mm_ThermalVias; Datasheet: http://www.st.com/resource/en/datasheet/l5973d.pdf; Description_: 2.5A step down switching regulator, HSOP-8
pins: 1 OUT, 2 SYNC, 3 INH, 4 COMP, 5 FB, 6 VREF, 7 GND, 8 VCC, 9 EP

## L7980A
designator *  value L7980A  Reference: U
2A step down switching regulator, HSOP-8; ki_keywords: step down buck regulator; ki_fp_filters: HSOP*EP*3.9x4.9mm*P1.27mm*; Footprint: Package_SO:HSOP-8-1EP_3.9x4.9mm_P1.27mm_EP2.3x2.3mm; Datasheet: https://www.st.com/resource/en/datasheet/l7980.pdf; Description_: 2A step down switching regulator, HSOP-8
pins: 1 OUT, 2 SYNC, 3 EN, 4 COMP, 5 FB, 6 FSW, 7 GND, 8 VCC, 9 GND

## LD7575
designator *  value LD7575  Reference: U
Green-Mode PWM Controller with High-Voltage Start-Up Circuit, DIP-8/SOIC-8; ki_keywords: smps controller; ki_fp_filters: SOIC*3.9x4.9mm*P1.27mm* DIP*W7.62mm*; Datasheet: http://www.leadtrend.com.tw/archive/doc/product/sheets/LD7575-DS-04b.pdf; Description_: Green-Mode PWM Controller with High-Voltage Start-Up Circuit, DIP-8/SOIC-8
pins: 1 RT, 2 COMP, 3 CS, 4 GND, 5 OUT, 6 VCC, 7 NC, 8 HV

## LGS5116B
designator *  value LGS5116B  Reference: U
2A, 500kHz Buck DC/DC Converter, adjustable output voltage, 4.5-18V input, 0.6-12V output, SOT-23-6; ki_keywords: 2A Buck DC/DC Legend; ki_fp_filters: SOT?23*; Footprint: Package_TO_SOT_SMD:SOT-23-6; Datasheet: https://datasheet.lcsc.com/lcsc/2305121704_Legend-Si-LGS5116B_C5818961.pdf; Description_: 2A, 500kHz Buck DC/DC Converter, adjustable output voltage, 4.5-18V input, 0.6-12V output, SOT-23-6
pins: 1 BST, 2 GND, 3 FB, 4 EN, 5 VIN, 6 SW

## LGS5145
designator *  value LGS5145  Reference: U
1A, 1.2MHz Buck DC/DC Converter, adjustable output voltage, 4.5..55V input, 0.8..50V output, SOT-23-6; ki_keywords: Legend step-down; ki_fp_filters: SOT?23*; Footprint: Package_TO_SOT_SMD:SOT-23-6; Datasheet: https://datasheet.lcsc.com/lcsc/2304071600_Legend-Si-LGS5145_C5123971.pdf; Description_: 1A, 1.2MHz Buck DC/DC Converter, adjustable output voltage, 4.5..55V input, 0.8..50V output, SOT-23-6
pins: 1 BST, 2 GND, 3 FB, 4 EN, 5 VIN, 6 SW

## LGS6302B5
designator *  value LGS6302B5  Reference: U
1.5A, 1.2MHz Boost DC/DC Converter, adjustable 3-60V output voltage, SOT-23-5; ki_keywords: step-up; ki_fp_filters: SOT?23*; Footprint: Package_TO_SOT_SMD:SOT-23-5; Datasheet: https://datasheet.lcsc.com/lcsc/2304071430_Legend-Si-LGS6302_C5123975.pdf; Description_: 1.5A, 1.2MHz Boost DC/DC Converter, adjustable 3-60V output voltage, SOT-23-5
pins: 1 SW, 2 GND, 3 FB, 4 EN, 5 IN

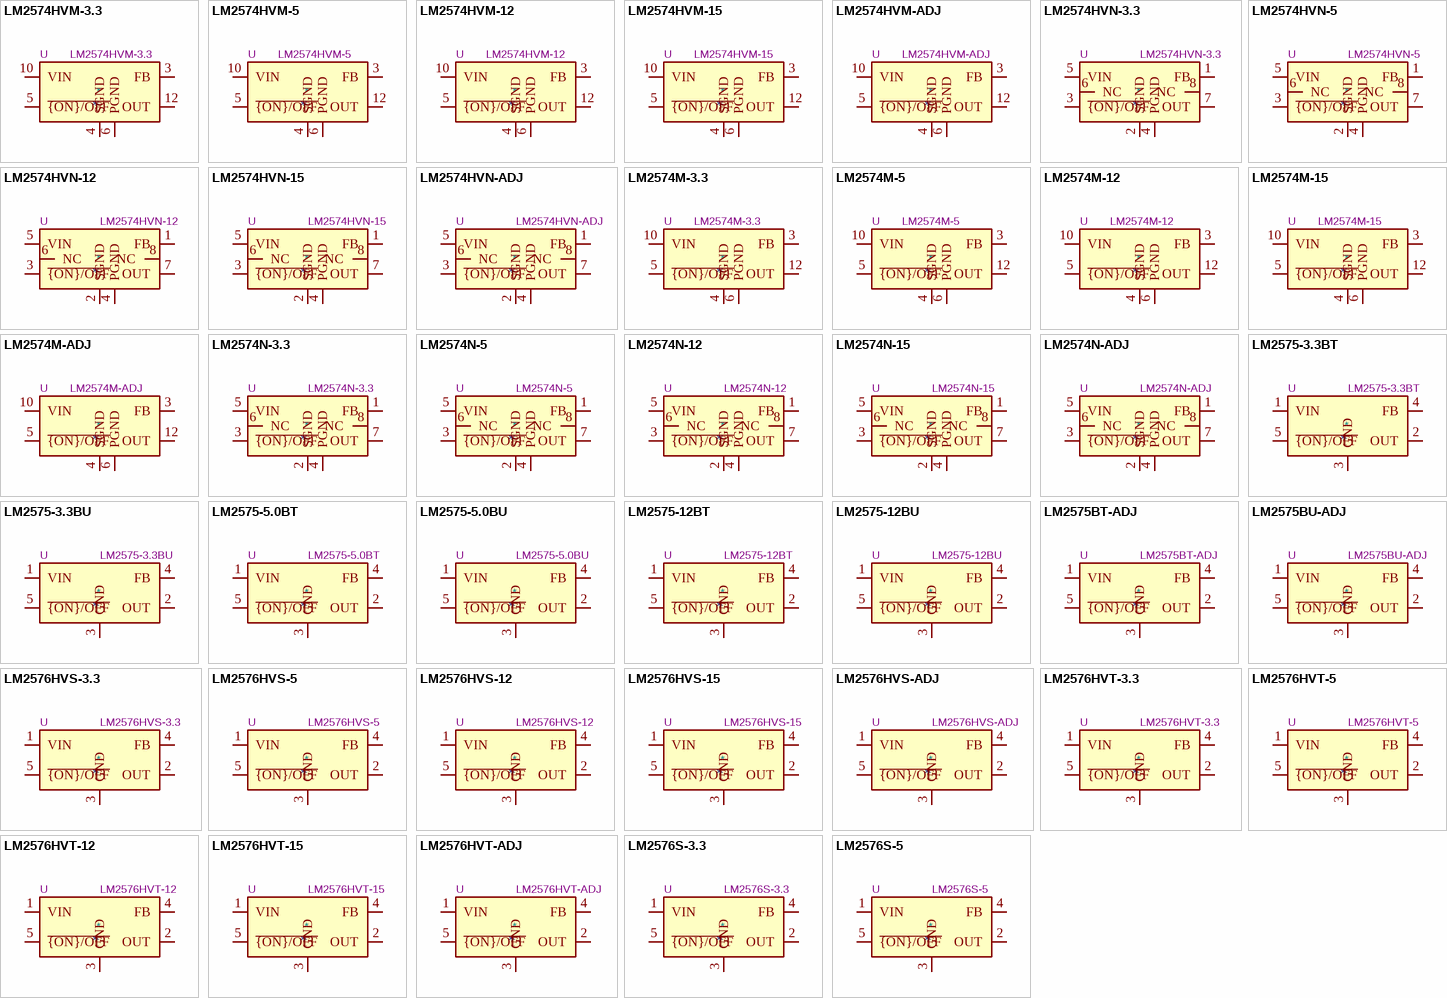
[diagram p4: symbols LM2574HVM-3.3 to LM2576S-5]

## LM2574HVM-3.3
designator *  value LM2574HVM-3.3  Reference: U
3.3V, 0.5A SIMPLE SWITCHER® Step-Down Voltage Regulator, High Voltage Input, SO-8; ki_keywords: Step-Down Voltage Regulator 3.3V 500mA HV; ki_fp_filters: SOIC*7.5x9mm*P1.27mm*; Footprint: Package_SO:SOIC-14W_7.5x9mm_P1.27mm; Datasheet: http://www.national.com/ds/LM/LM2574.pdf; Description_: 3.3V, 0.5A SIMPLE SWITCHER® Step-Down Voltage Regulator, High Voltage Input, SO-8
pins: 3 FB, 4 SGND, 5 ~{{ON}/OFF}, 6 PGND, 10 VIN, 12 OUT

## LM2574HVM-5
designator *  value LM2574HVM-5  Reference: U
5V, 0.5A SIMPLE SWITCHER® Step-Down Voltage Regulator, High Voltage Input, SO-8; ki_keywords: Step-Down Voltage Regulator 5V 500mA HV; ki_fp_filters: SOIC*7.5x9mm*P1.27mm*; Footprint: Package_SO:SOIC-14W_7.5x9mm_P1.27mm; Datasheet: http://www.national.com/ds/LM/LM2574.pdf; Description_: 5V, 0.5A SIMPLE SWITCHER® Step-Down Voltage Regulator, High Voltage Input, SO-8
pins: 3 FB, 4 SGND, 5 ~{{ON}/OFF}, 6 PGND, 10 VIN, 12 OUT

## LM2574HVM-12
designator *  value LM2574HVM-12  Reference: U
12V, 0.5A Step-Down Voltage Regulator, High Voltage Input, SO-8; ki_keywords: Step-Down Voltage Regulator 12V 500mA HV; ki_fp_filters: SOIC*7.5x9mm*P1.27mm*; Footprint: Package_SO:SOIC-14W_7.5x9mm_P1.27mm; Datasheet: http://www.ti.com/lit/ds/symlink/lm2574.pdf; Description_: 12V, 0.5A Step-Down Voltage Regulator, High Voltage Input, SO-8
pins: 3 FB, 4 SGND, 5 ~{{ON}/OFF}, 6 PGND, 10 VIN, 12 OUT

## LM2574HVM-15
designator *  value LM2574HVM-15  Reference: U
15V, 0.5A SIMPLE SWITCHER® Step-Down Voltage Regulator, High Voltage Input, SO-8; ki_keywords: Step-Down Voltage Regulator 15V 500mA HV; ki_fp_filters: SOIC*7.5x9mm*P1.27mm*; Footprint: Package_SO:SOIC-14W_7.5x9mm_P1.27mm; Datasheet: http://www.national.com/ds/LM/LM2574.pdf; Description_: 15V, 0.5A SIMPLE SWITCHER® Step-Down Voltage Regulator, High Voltage Input, SO-8
pins: 3 FB, 4 SGND, 5 ~{{ON}/OFF}, 6 PGND, 10 VIN, 12 OUT

## LM2574HVM-ADJ
designator *  value LM2574HVM-ADJ  Reference: U
Adjustable Output Voltage, 0.5A SIMPLE SWITCHER® Step-Down Voltage Regulator, High Voltage Input, SO-8; ki_keywords: Step-Down Voltage Regulator Adjustable 500mA HV; ki_fp_filters: SOIC*7.5x9mm*P1.27mm*; Footprint: Package_SO:SOIC-14W_7.5x9mm_P1.27mm; Datasheet: http://www.national.com/ds/LM/LM2574.pdf; Description_: Adjustable Output Voltage, 0.5A SIMPLE SWITCHER® Step-Down Voltage Regulator, High Voltage Input, SO-8
pins: 3 FB, 4 SGND, 5 ~{{ON}/OFF}, 6 PGND, 10 VIN, 12 OUT

## LM2574HVN-3.3
designator *  value LM2574HVN-3.3  Reference: U
3.3V, 0.5A SIMPLE SWITCHER® Step-Down Voltage Regulator, High Voltage Input, DIP-8; ki_keywords: Step-Down Voltage Regulator 3.3V 500mA HV; ki_fp_filters: DIP*W7.62mm*; Footprint: Package_DIP:DIP-8_W7.62mm; Datasheet: http://www.national.com/ds/LM/LM2574.pdf; Description_: 3.3V, 0.5A SIMPLE SWITCHER® Step-Down Voltage Regulator, High Voltage Input, DIP-8
pins: 1 FB, 2 SGND, 3 ~{{ON}/OFF}, 4 PGND, 5 VIN, 6 NC, 7 OUT, 8 NC

## LM2574HVN-5
designator *  value LM2574HVN-5  Reference: U
5V, 0.5A SIMPLE SWITCHER® Step-Down Voltage Regulator, High Voltage Input, DIP-8; ki_keywords: Step-Down Voltage Regulator 5V 500mA HV; ki_fp_filters: DIP*W7.62mm*; Footprint: Package_DIP:DIP-8_W7.62mm; Datasheet: http://www.national.com/ds/LM/LM2574.pdf; Description_: 5V, 0.5A SIMPLE SWITCHER® Step-Down Voltage Regulator, High Voltage Input, DIP-8
pins: 1 FB, 2 SGND, 3 ~{{ON}/OFF}, 4 PGND, 5 VIN, 6 NC, 7 OUT, 8 NC

## LM2574HVN-12
designator *  value LM2574HVN-12  Reference: U
12V, 0.5A Step-Down Voltage Regulator, High Voltage Input, DIP-8; ki_keywords: Step-Down Voltage Regulator 12V 500mA HV; ki_fp_filters: DIP*W7.62mm*; Footprint: Package_DIP:DIP-8_W7.62mm; Datasheet: http://www.ti.com/lit/ds/symlink/lm2574.pdf; Description_: 12V, 0.5A Step-Down Voltage Regulator, High Voltage Input, DIP-8
pins: 1 FB, 2 SGND, 3 ~{{ON}/OFF}, 4 PGND, 5 VIN, 6 NC, 7 OUT, 8 NC

## LM2574HVN-15
designator *  value LM2574HVN-15  Reference: U
15V, 0.5A SIMPLE SWITCHER® Step-Down Voltage Regulator, High Voltage Input, DIP-8; ki_keywords: Step-Down Voltage Regulator 15V 500mA HV; ki_fp_filters: DIP*W7.62mm*; Footprint: Package_DIP:DIP-8_W7.62mm; Datasheet: http://www.national.com/ds/LM/LM2574.pdf; Description_: 15V, 0.5A SIMPLE SWITCHER® Step-Down Voltage Regulator, High Voltage Input, DIP-8
pins: 1 FB, 2 SGND, 3 ~{{ON}/OFF}, 4 PGND, 5 VIN, 6 NC, 7 OUT, 8 NC

## LM2574HVN-ADJ
designator *  value LM2574HVN-ADJ  Reference: U
Adjustable Output Voltage, 0.5A SIMPLE SWITCHER® Step-Down Voltage Regulator, High Voltage Input, DIP-8; ki_keywords: Step-Down Voltage Regulator Adjustable 500mA HV; ki_fp_filters: DIP*W7.62mm*; Footprint: Package_DIP:DIP-8_W7.62mm; Datasheet: http://www.national.com/ds/LM/LM2574.pdf; Description_: Adjustable Output Voltage, 0.5A SIMPLE SWITCHER® Step-Down Voltage Regulator, High Voltage Input, DIP-8
pins: 1 FB, 2 SGND, 3 ~{{ON}/OFF}, 4 PGND, 5 VIN, 6 NC, 7 OUT, 8 NC

## LM2574M-3.3
designator *  value LM2574M-3.3  Reference: U
3.3V, 0.5A SIMPLE SWITCHER® Step-Down Voltage Regulator, SO-8; ki_keywords: Step-Down Voltage Regulator 3.3V 500mA; ki_fp_filters: SOIC*7.5x9mm*P1.27mm*; Footprint: Package_SO:SOIC-14W_7.5x9mm_P1.27mm; Datasheet: http://www.national.com/ds/LM/LM2574.pdf; Description_: 3.3V, 0.5A SIMPLE SWITCHER® Step-Down Voltage Regulator, SO-8
pins: 3 FB, 4 SGND, 5 ~{{ON}/OFF}, 6 PGND, 10 VIN, 12 OUT

## LM2574M-5
designator *  value LM2574M-5  Reference: U
5V, 0.5A SIMPLE SWITCHER® Step-Down Voltage Regulator, SO-8; ki_keywords: Step-Down Voltage Regulator 5V 500mA; ki_fp_filters: SOIC*7.5x9mm*P1.27mm*; Footprint: Package_SO:SOIC-14W_7.5x9mm_P1.27mm; Datasheet: http://www.national.com/ds/LM/LM2574.pdf; Description_: 5V, 0.5A SIMPLE SWITCHER® Step-Down Voltage Regulator, SO-8
pins: 3 FB, 4 SGND, 5 ~{{ON}/OFF}, 6 PGND, 10 VIN, 12 OUT

## LM2574M-12
designator *  value LM2574M-12  Reference: U
12V, 0.5A SIMPLE SWITCHER® Step-Down Voltage Regulator, SO-8; ki_keywords: Step-Down Voltage Regulator 12V 500mA; ki_fp_filters: SOIC*7.5x9mm*P1.27mm*; Footprint: Package_SO:SOIC-14W_7.5x9mm_P1.27mm; Datasheet: http://www.national.com/ds/LM/LM2574.pdf; Description_: 12V, 0.5A SIMPLE SWITCHER® Step-Down Voltage Regulator, SO-8
pins: 3 FB, 4 SGND, 5 ~{{ON}/OFF}, 6 PGND, 10 VIN, 12 OUT

## LM2574M-15
designator *  value LM2574M-15  Reference: U
15V, 0.5A SIMPLE SWITCHER® Step-Down Voltage Regulator, SO-8; ki_keywords: Step-Down Voltage Regulator 15V 500mA; ki_fp_filters: SOIC*7.5x9mm*P1.27mm*; Footprint: Package_SO:SOIC-14W_7.5x9mm_P1.27mm; Datasheet: http://www.national.com/ds/LM/LM2574.pdf; Description_: 15V, 0.5A SIMPLE SWITCHER® Step-Down Voltage Regulator, SO-8
pins: 3 FB, 4 SGND, 5 ~{{ON}/OFF}, 6 PGND, 10 VIN, 12 OUT

## LM2574M-ADJ
designator *  value LM2574M-ADJ  Reference: U
Adjustable Output Voltage, 0.5A SIMPLE SWITCHER® Step-Down Voltage Regulator, SO-8; ki_keywords: Step-Down Voltage Regulator Adjustable 500mA; ki_fp_filters: SOIC*7.5x9mm*P1.27mm*; Footprint: Package_SO:SOIC-14W_7.5x9mm_P1.27mm; Datasheet: http://www.national.com/ds/LM/LM2574.pdf; Description_: Adjustable Output Voltage, 0.5A SIMPLE SWITCHER® Step-Down Voltage Regulator, SO-8
pins: 3 FB, 4 SGND, 5 ~{{ON}/OFF}, 6 PGND, 10 VIN, 12 OUT

## LM2574N-3.3
designator *  value LM2574N-3.3  Reference: U
3.3V, 0.5A SIMPLE SWITCHER® Step-Down Voltage Regulator, DIP-8; ki_keywords: Step-Down Voltage Regulator 3.3V 500mA; ki_fp_filters: DIP*W7.62mm*; Footprint: Package_DIP:DIP-8_W7.62mm; Datasheet: http://www.national.com/ds/LM/LM2574.pdf; Description_: 3.3V, 0.5A SIMPLE SWITCHER® Step-Down Voltage Regulator, DIP-8
pins: 1 FB, 2 SGND, 3 ~{{ON}/OFF}, 4 PGND, 5 VIN, 6 NC, 7 OUT, 8 NC

## LM2574N-5
designator *  value LM2574N-5  Reference: U
5V, 0.5A SIMPLE SWITCHER® Step-Down Voltage Regulator, DIP-8; ki_keywords: Step-Down Voltage Regulator 5V 500mA; ki_fp_filters: DIP*W7.62mm*; Footprint: Package_DIP:DIP-8_W7.62mm; Datasheet: http://www.national.com/ds/LM/LM2574.pdf; Description_: 5V, 0.5A SIMPLE SWITCHER® Step-Down Voltage Regulator, DIP-8
pins: 1 FB, 2 SGND, 3 ~{{ON}/OFF}, 4 PGND, 5 VIN, 6 NC, 7 OUT, 8 NC

## LM2574N-12
designator *  value LM2574N-12  Reference: U
12V, 0.5A SIMPLE SWITCHER® Step-Down Voltage Regulator, DIP-8; ki_keywords: Step-Down Voltage Regulator 12V 500mA; ki_fp_filters: DIP*W7.62mm*; Footprint: Package_DIP:DIP-8_W7.62mm; Datasheet: http://www.national.com/ds/LM/LM2574.pdf; Description_: 12V, 0.5A SIMPLE SWITCHER® Step-Down Voltage Regulator, DIP-8
pins: 1 FB, 2 SGND, 3 ~{{ON}/OFF}, 4 PGND, 5 VIN, 6 NC, 7 OUT, 8 NC

## LM2574N-15
designator *  value LM2574N-15  Reference: U
15V, 0.5A SIMPLE SWITCHER® Step-Down Voltage Regulator, DIP-8; ki_keywords: Step-Down Voltage Regulator 15V 500mA; ki_fp_filters: DIP*W7.62mm*; Footprint: Package_DIP:DIP-8_W7.62mm; Datasheet: http://www.national.com/ds/LM/LM2574.pdf; Description_: 15V, 0.5A SIMPLE SWITCHER® Step-Down Voltage Regulator, DIP-8
pins: 1 FB, 2 SGND, 3 ~{{ON}/OFF}, 4 PGND, 5 VIN, 6 NC, 7 OUT, 8 NC

## LM2574N-ADJ
designator *  value LM2574N-ADJ  Reference: U
Adjustable Output Voltage, 0.5A SIMPLE SWITCHER® Step-Down Voltage Regulator, DIP-8; ki_keywords: Step-Down Voltage Regulator Adjustable 500mA; ki_fp_filters: DIP*W7.62mm*; Footprint: Package_DIP:DIP-8_W7.62mm; Datasheet: http://www.national.com/ds/LM/LM2574.pdf; Description_: Adjustable Output Voltage, 0.5A SIMPLE SWITCHER® Step-Down Voltage Regulator, DIP-8
pins: 1 FB, 2 SGND, 3 ~{{ON}/OFF}, 4 PGND, 5 VIN, 6 NC, 7 OUT, 8 NC

## LM2575-3.3BT
designator *  value LM2575-3.3BT  Reference: U
Fixed 3.3V 52kHz Simple 1A Buck Regulator, TO-220-5; ki_keywords: Buck regulator Switcher; ki_fp_filters: TO?220*; Footprint: Package_TO_SOT_THT:TO-220-5_Vertical; Datasheet: http://ww1.microchip.com/downloads/en/DeviceDoc/lm2575.pdf; Description_: Fixed 3.3V 52kHz Simple 1A Buck Regulator, TO-220-5
pins: 1 VIN, 2 OUT, 3 GND, 4 FB, 5 ~{{ON}/OFF}

## LM2575-3.3BU
designator *  value LM2575-3.3BU  Reference: U
Fixed 3.3V 52kHz Simple 1A Buck Regulator, TO-263; ki_keywords: Buck regulator Switcher; ki_fp_filters: TO?263*; Footprint: Package_TO_SOT_SMD:TO-263-5_TabPin3; Datasheet: http://ww1.microchip.com/downloads/en/DeviceDoc/lm2575.pdf; Description_: Fixed 3.3V 52kHz Simple 1A Buck Regulator, TO-263
pins: 1 VIN, 2 OUT, 3 GND, 4 FB, 5 ~{{ON}/OFF}

## LM2575-5.0BT
designator *  value LM2575-5.0BT  Reference: U
Fixed 5.0V 52kHz Simple 1A Buck Regulator, TO-220-5; ki_keywords: Buck regulator Switcher; ki_fp_filters: TO?220*; Footprint: Package_TO_SOT_THT:TO-220-5_Vertical; Datasheet: http://ww1.microchip.com/downloads/en/DeviceDoc/lm2575.pdf; Description_: Fixed 5.0V 52kHz Simple 1A Buck Regulator, TO-220-5
pins: 1 VIN, 2 OUT, 3 GND, 4 FB, 5 ~{{ON}/OFF}

## LM2575-5.0BU
designator *  value LM2575-5.0BU  Reference: U
Fixed 5.0V 52kHz Simple 1A Buck Regulator, TO-263; ki_keywords: Buck regulator Switcher; ki_fp_filters: TO?263*; Footprint: Package_TO_SOT_SMD:TO-263-5_TabPin3; Datasheet: http://ww1.microchip.com/downloads/en/DeviceDoc/lm2575.pdf; Description_: Fixed 5.0V 52kHz Simple 1A Buck Regulator, TO-263
pins: 1 VIN, 2 OUT, 3 GND, 4 FB, 5 ~{{ON}/OFF}

## LM2575-12BT
designator *  value LM2575-12BT  Reference: U
Fixed 12V 52kHz Simple 1A Buck Regulator, TO-220-5; ki_keywords: Buck regulator Switcher; ki_fp_filters: TO?220*; Footprint: Package_TO_SOT_THT:TO-220-5_Vertical; Datasheet: http://ww1.microchip.com/downloads/en/DeviceDoc/lm2575.pdf; Description_: Fixed 12V 52kHz Simple 1A Buck Regulator, TO-220-5
pins: 1 VIN, 2 OUT, 3 GND, 4 FB, 5 ~{{ON}/OFF}

## LM2575-12BU
designator *  value LM2575-12BU  Reference: U
Fixed 12V 52kHz Simple 1A Buck Regulator, TO-263; ki_keywords: Buck regulator Switcher; ki_fp_filters: TO?263*; Footprint: Package_TO_SOT_SMD:TO-263-5_TabPin3; Datasheet: http://ww1.microchip.com/downloads/en/DeviceDoc/lm2575.pdf; Description_: Fixed 12V 52kHz Simple 1A Buck Regulator, TO-263
pins: 1 VIN, 2 OUT, 3 GND, 4 FB, 5 ~{{ON}/OFF}

## LM2575BT-ADJ
designator *  value LM2575BT-ADJ  Reference: U
Adjustable 52kHz Simple 1A Buck Regulator, TO-220-5; ki_keywords: Buck regulator Switcher; ki_fp_filters: TO?220*; Footprint: Package_TO_SOT_THT:TO-220-5_Vertical; Datasheet: http://ww1.microchip.com/downloads/en/DeviceDoc/lm2575.pdf; Description_: Adjustable 52kHz Simple 1A Buck Regulator, TO-220-5
pins: 1 VIN, 2 OUT, 3 GND, 4 FB, 5 ~{{ON}/OFF}

## LM2575BU-ADJ
designator *  value LM2575BU-ADJ  Reference: U
Adjustable 52kHz Simple 1A Buck Regulator, TO-263; ki_keywords: Buck Regulator Switcher; ki_fp_filters: TO?263*; Footprint: Package_TO_SOT_SMD:TO-263-5_TabPin3; Datasheet: http://ww1.microchip.com/downloads/en/DeviceDoc/lm2575.pdf; Description_: Adjustable 52kHz Simple 1A Buck Regulator, TO-263
pins: 1 VIN, 2 OUT, 3 GND, 4 FB, 5 ~{{ON}/OFF}

## LM2576HVS-3.3
designator *  value LM2576HVS-3.3  Reference: U
3.3V, 3A, SIMPLE SWITCHER® Step-Down Voltage Regulator, High Voltage Input, TO-263; ki_keywords: Step-Down Voltage Regulator 3.3V 3A High Voltage; ki_fp_filters: TO?263*; Footprint: Package_TO_SOT_SMD:TO-263-5_TabPin3; Datasheet: http://www.ti.com/lit/ds/symlink/lm2576.pdf; Description_: 3.3V, 3A, SIMPLE SWITCHER® Step-Down Voltage Regulator, High Voltage Input, TO-263
pins: 1 VIN, 2 OUT, 3 GND, 4 FB, 5 ~{{ON}/OFF}

## LM2576HVS-5
designator *  value LM2576HVS-5  Reference: U
5V 3A, SIMPLE SWITCHER® Step-Down Voltage Regulator, High Voltage Input, TO-263; ki_keywords: Step-Down Voltage Regulator 5V 3A High Voltage; ki_fp_filters: TO?263*; Footprint: Package_TO_SOT_SMD:TO-263-5_TabPin3; Datasheet: http://www.ti.com/lit/ds/symlink/lm2576.pdf; Description_: 5V 3A, SIMPLE SWITCHER® Step-Down Voltage Regulator, High Voltage Input, TO-263
pins: 1 VIN, 2 OUT, 3 GND, 4 FB, 5 ~{{ON}/OFF}

## LM2576HVS-12
designator *  value LM2576HVS-12  Reference: U
12V, 3A SIMPLE SWITCHER® Step-Down Voltage Regulator, High Voltage Input, TO-263; ki_keywords: Step-Down Voltage Regulator 12V 3A High Voltage; ki_fp_filters: TO?263*; Footprint: Package_TO_SOT_SMD:TO-263-5_TabPin3; Datasheet: http://www.ti.com/lit/ds/symlink/lm2576.pdf; Description_: 12V, 3A SIMPLE SWITCHER® Step-Down Voltage Regulator, High Voltage Input, TO-263
pins: 1 VIN, 2 OUT, 3 GND, 4 FB, 5 ~{{ON}/OFF}

## LM2576HVS-15
designator *  value LM2576HVS-15  Reference: U
15V, 3A SIMPLE SWITCHER® Step-Down Voltage Regulator, High Voltage Input, TO-263; ki_keywords: Step-Down Voltage Regulator 15V 3A High Voltage; ki_fp_filters: TO?263*; Footprint: Package_TO_SOT_SMD:TO-263-5_TabPin3; Datasheet: http://www.ti.com/lit/ds/symlink/lm2576.pdf; Description_: 15V, 3A SIMPLE SWITCHER® Step-Down Voltage Regulator, High Voltage Input, TO-263
pins: 1 VIN, 2 OUT, 3 GND, 4 FB, 5 ~{{ON}/OFF}

## LM2576HVS-ADJ
designator *  value LM2576HVS-ADJ  Reference: U
Adjustable Output Voltage, 3A SIMPLE SWITCHER® Step-Down Voltage Regulator, High Voltage Input, TO-263; ki_keywords: Step-Down Voltage Regulator 3A Adjustable High Voltage; ki_fp_filters: TO?263*; Footprint: Package_TO_SOT_SMD:TO-263-5_TabPin3; Datasheet: http://www.ti.com/lit/ds/symlink/lm2576.pdf; Description_: Adjustable Output Voltage, 3A SIMPLE SWITCHER® Step-Down Voltage Regulator, High Voltage Input, TO-263
pins: 1 VIN, 2 OUT, 3 GND, 4 FB, 5 ~{{ON}/OFF}

## LM2576HVT-3.3
designator *  value LM2576HVT-3.3  Reference: U
3.3V, 3A SIMPLE SWITCHER® Step-Down Voltage Regulator, High Voltage Input, TO-220-5; ki_keywords: Step-Down Voltage Regulator 3.3V 3A High Voltage; ki_fp_filters: TO?220*; Footprint: Package_TO_SOT_THT:TO-220-5_Vertical; Datasheet: http://www.ti.com/lit/ds/symlink/lm2576.pdf; Description_: 3.3V, 3A SIMPLE SWITCHER® Step-Down Voltage Regulator, High Voltage Input, TO-220-5
pins: 1 VIN, 2 OUT, 3 GND, 4 FB, 5 ~{{ON}/OFF}

## LM2576HVT-5
designator *  value LM2576HVT-5  Reference: U
5V, 3A SIMPLE SWITCHER® Step-Down Voltage Regulator, High Voltage Input, TO-220-5; ki_keywords: Step-Down Voltage Regulator 5V 3A High Voltage; ki_fp_filters: TO?220*; Footprint: Package_TO_SOT_THT:TO-220-5_Vertical; Datasheet: http://www.ti.com/lit/ds/symlink/lm2576.pdf; Description_: 5V, 3A SIMPLE SWITCHER® Step-Down Voltage Regulator, High Voltage Input, TO-220-5
pins: 1 VIN, 2 OUT, 3 GND, 4 FB, 5 ~{{ON}/OFF}

## LM2576HVT-12
designator *  value LM2576HVT-12  Reference: U
12V, 3A SIMPLE SWITCHER® Step-Down Voltage Regulator, High Voltage Input, TO-220-5; ki_keywords: Step-Down Voltage Regulator 12V 3A High Voltage; ki_fp_filters: TO?220*; Footprint: Package_TO_SOT_THT:TO-220-5_Vertical; Datasheet: http://www.ti.com/lit/ds/symlink/lm2576.pdf; Description_: 12V, 3A SIMPLE SWITCHER® Step-Down Voltage Regulator, High Voltage Input, TO-220-5
pins: 1 VIN, 2 OUT, 3 GND, 4 FB, 5 ~{{ON}/OFF}

## LM2576HVT-15
designator *  value LM2576HVT-15  Reference: U
15V, 3A SIMPLE SWITCHER® Step-Down Voltage Regulator, High Voltage Input, TO-220-5; ki_keywords: Step-Down Voltage Regulator 15V 3A High Voltage; ki_fp_filters: TO?220*; Footprint: Package_TO_SOT_THT:TO-220-5_Vertical; Datasheet: http://www.ti.com/lit/ds/symlink/lm2576.pdf; Description_: 15V, 3A SIMPLE SWITCHER® Step-Down Voltage Regulator, High Voltage Input, TO-220-5
pins: 1 VIN, 2 OUT, 3 GND, 4 FB, 5 ~{{ON}/OFF}

## LM2576HVT-ADJ
designator *  value LM2576HVT-ADJ  Reference: U
Adjustable Output Voltage, 3A SIMPLE SWITCHER® Step-Down Voltage Regulator, High Voltage Input, TO-220-5; ki_keywords: Step-Down Voltage Regulator 3A Adjustable High Voltage; ki_fp_filters: TO?220*; Footprint: Package_TO_SOT_THT:TO-220-5_Vertical; Datasheet: http://www.ti.com/lit/ds/symlink/lm2576.pdf; Description_: Adjustable Output Voltage, 3A SIMPLE SWITCHER® Step-Down Voltage Regulator, High Voltage Input, TO-220-5
pins: 1 VIN, 2 OUT, 3 GND, 4 FB, 5 ~{{ON}/OFF}

## LM2576S-3.3
designator *  value LM2576S-3.3  Reference: U
3.3V, 3A SIMPLE SWITCHER® Step-Down Voltage Regulator, TO-263; ki_keywords: Step-Down Voltage Regulator 3.3V 3A; ki_fp_filters: TO?263*; Footprint: Package_TO_SOT_SMD:TO-263-5_TabPin3; Datasheet: http://www.ti.com/lit/ds/symlink/lm2576.pdf; Description_: 3.3V, 3A SIMPLE SWITCHER® Step-Down Voltage Regulator, TO-263
pins: 1 VIN, 2 OUT, 3 GND, 4 FB, 5 ~{{ON}/OFF}

## LM2576S-5
designator *  value LM2576S-5  Reference: U
5V, 3A SIMPLE SWITCHER® Step-Down Voltage Regulator, TO-263; ki_keywords: Step-Down Voltage Regulator 5V 3A; ki_fp_filters: TO?263*; Footprint: Package_TO_SOT_SMD:TO-263-5_TabPin3; Datasheet: http://www.ti.com/lit/ds/symlink/lm2576.pdf; Description_: 5V, 3A SIMPLE SWITCHER® Step-Down Voltage Regulator, TO-263
pins: 1 VIN, 2 OUT, 3 GND, 4 FB, 5 ~{{ON}/OFF}

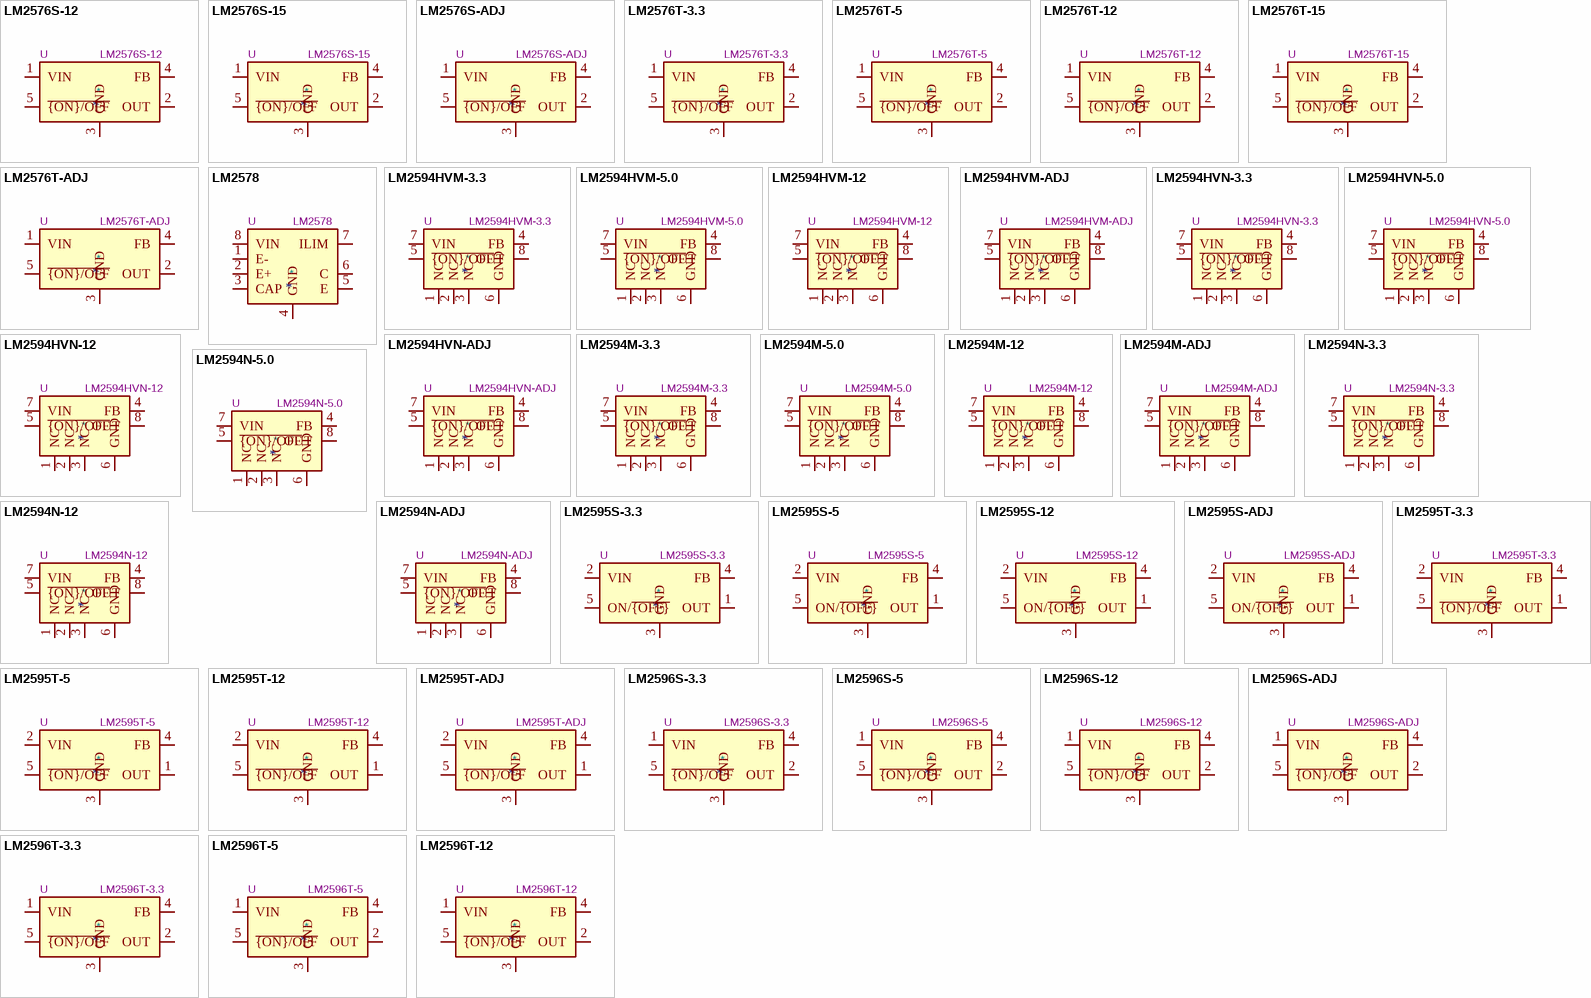
[diagram p5: symbols LM2576S-12 to LM2596T-12]

## LM2576S-12
designator *  value LM2576S-12  Reference: U
12V, 3A SIMPLE SWITCHER® Step-Down Voltage Regulator, TO-263; ki_keywords: Step-Down Voltage Regulator 12V 3A; ki_fp_filters: TO?263*; Footprint: Package_TO_SOT_SMD:TO-263-5_TabPin3; Datasheet: http://www.ti.com/lit/ds/symlink/lm2576.pdf; Description_: 12V, 3A SIMPLE SWITCHER® Step-Down Voltage Regulator, TO-263
pins: 1 VIN, 2 OUT, 3 GND, 4 FB, 5 ~{{ON}/OFF}

## LM2576S-15
designator *  value LM2576S-15  Reference: U
15V, 3A SIMPLE SWITCHER® Step-Down Voltage Regulator, TO-263; ki_keywords: Step-Down Voltage Regulator 15V 3A; ki_fp_filters: TO?263*; Footprint: Package_TO_SOT_SMD:TO-263-5_TabPin3; Datasheet: http://www.ti.com/lit/ds/symlink/lm2576.pdf; Description_: 15V, 3A SIMPLE SWITCHER® Step-Down Voltage Regulator, TO-263
pins: 1 VIN, 2 OUT, 3 GND, 4 FB, 5 ~{{ON}/OFF}

## LM2576S-ADJ
designator *  value LM2576S-ADJ  Reference: U
Adjustable Output Voltage, 3A SIMPLE SWITCHER® Step-Down Voltage Regulator, TO-263; ki_keywords: Step-Down Voltage Regulator 3A Adjustable; ki_fp_filters: TO?263*; Footprint: Package_TO_SOT_SMD:TO-263-5_TabPin3; Datasheet: http://www.ti.com/lit/ds/symlink/lm2576.pdf; Description_: Adjustable Output Voltage, 3A SIMPLE SWITCHER® Step-Down Voltage Regulator, TO-263
pins: 1 VIN, 2 OUT, 3 GND, 4 FB, 5 ~{{ON}/OFF}

## LM2576T-3.3
designator *  value LM2576T-3.3  Reference: U
3.3V, 3A SIMPLE SWITCHER® Step-Down Voltage Regulator, TO-220-5; ki_keywords: Step-Down Voltage Regulator 3.3V 3A; ki_fp_filters: TO?220*; Footprint: Package_TO_SOT_THT:TO-220-5_Vertical; Datasheet: http://www.ti.com/lit/ds/symlink/lm2576.pdf; Description_: 3.3V, 3A SIMPLE SWITCHER® Step-Down Voltage Regulator, TO-220-5
pins: 1 VIN, 2 OUT, 3 GND, 4 FB, 5 ~{{ON}/OFF}

## LM2576T-5
designator *  value LM2576T-5  Reference: U
5V, 3A SIMPLE SWITCHER® Step-Down Voltage Regulator, TO-220-5; ki_keywords: Step-Down Voltage Regulator 5V 3A; ki_fp_filters: TO?220*; Footprint: Package_TO_SOT_THT:TO-220-5_Vertical; Datasheet: http://www.ti.com/lit/ds/symlink/lm2576.pdf; Description_: 5V, 3A SIMPLE SWITCHER® Step-Down Voltage Regulator, TO-220-5
pins: 1 VIN, 2 OUT, 3 GND, 4 FB, 5 ~{{ON}/OFF}

## LM2576T-12
designator *  value LM2576T-12  Reference: U
12V, 3A SIMPLE SWITCHER® Step-Down Voltage Regulator, TO-220-5; ki_keywords: Step-Down Voltage Regulator 12V 3A; ki_fp_filters: TO?220*; Footprint: Package_TO_SOT_THT:TO-220-5_Vertical; Datasheet: http://www.ti.com/lit/ds/symlink/lm2576.pdf; Description_: 12V, 3A SIMPLE SWITCHER® Step-Down Voltage Regulator, TO-220-5
pins: 1 VIN, 2 OUT, 3 GND, 4 FB, 5 ~{{ON}/OFF}

## LM2576T-15
designator *  value LM2576T-15  Reference: U
15V, 3A SIMPLE SWITCHER® Step-Down Voltage Regulator, TO-220-5; ki_keywords: Step-Down Voltage Regulator 15V 3A; ki_fp_filters: TO?220*; Footprint: Package_TO_SOT_THT:TO-220-5_Vertical; Datasheet: http://www.ti.com/lit/ds/symlink/lm2576.pdf; Description_: 15V, 3A SIMPLE SWITCHER® Step-Down Voltage Regulator, TO-220-5
pins: 1 VIN, 2 OUT, 3 GND, 4 FB, 5 ~{{ON}/OFF}